# Altium footprint library Keyboard.PcbLib: 46 footprints (part 1 of 3)
Each footprint in its own frame and in the unit in brackets; x right, y up, seen from the top. Pads: shape width x height; smd on the part's side, far side on the other; paste and mask are expansions set on the pad; w line width, h text height; cw(c..) or ccw(c..) is an arc to the next point about the centre after c.
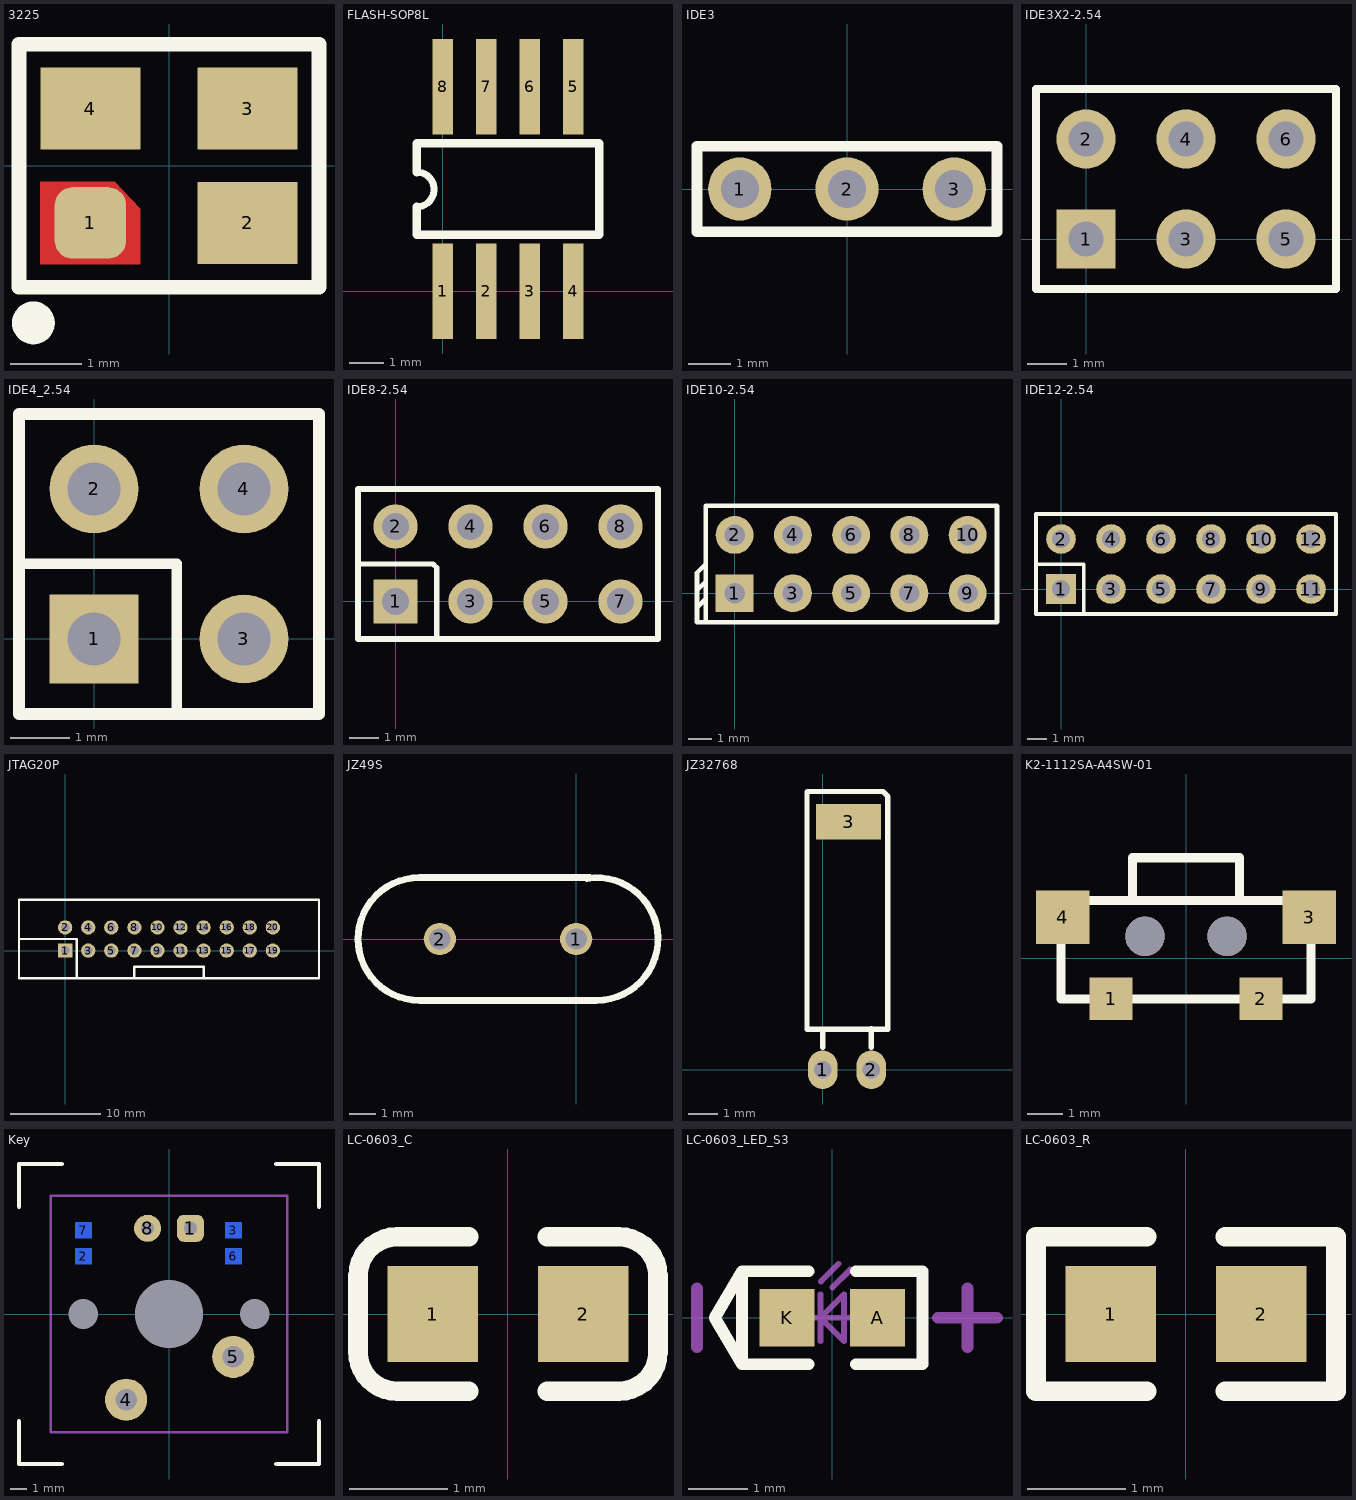
[diagram p0: the footprints below, top view; thin cyan lines are the x and y axes]

## 3225 [mm]
pads (4):
  rrect50% 1x1 smd: 1(-1.1,-0.8)
  rect 1.4x1.15 smd: 2(1.1,-0.8) 3(1.1,0.8) 4(-1.1,0.8)
Top Layer:
  region: -1.8,-0.225 -0.762,-0.225 -0.4,-0.604 -0.4,-1.375 -1.8,-1.375
Top Overlay:
  lines w0.203: -2.1,-1.7 -2.1,1.7 2.1,1.7 2.1,-1.7 -2.1,-1.7
  lines w0.3: -1.9,-2.05 ccw(c-1.899,-2.2) -1.897,-2.05
Top Paste:
  region: -1.8,-0.225 -0.762,-0.225 -0.4,-0.604 -0.4,-1.375 -1.8,-1.375
Top Solder:
  region: -1.905,-0.127 -0.856,-0.127 -0.381,-0.624 -0.381,-1.397 -1.905,-1.397

## FLASH-SOP8L [mil]
pads (8):
  rect 24x110 smd: 1(0,0) 2(50,0) 3(100,0) 4(150,0) 5(150,235) 6(100,235) 7(50,235) 8(0,235)
Top Overlay:
  lines w8: -30,97 ccw(c-30,117) -30,137
  lines w10: -30,97 -30,65 180,65 180,170 -30,170 -30,137

## IDE3 [mm]
pads (3):
  round 1.5 hole 0.9: 1(-2.54,0) 2(0,0) 3(2.54,0)
Top Overlay:
  lines w0.254: -3.556,-1.016 3.556,-1.016 3.556,1.016 -3.556,1.016 -3.556,-1.016

## IDE3X2-2.54 [mm]
pads (6):
  rect 1.5x1.5 hole 0.9: 1(0,0)
  round 1.5 hole 0.9: 2(0,2.54) 3(2.54,0) 4(2.54,2.54) 5(5.08,0) 6(5.08,2.54)
Top Overlay:
  lines w0.2: 1.482,-1.27 6.35,-1.27 ; 6.35,-1.27 6.35,3.81 -1.27,3.81 -1.27,-1.27 6.35,-1.27

## IDE4_2.54 [mm]
pads (4):
  rect 1.5x1.5 hole 0.9: 1(0,0)
  round 1.5 hole 0.9: 2(0,2.54) 3(2.54,0) 4(2.54,2.54)
Top Overlay:
  lines w0.178: -1.27,1.27 1.397,1.27 1.397,-1.27
  lines w0.2: -1.27,-1.27 3.81,-1.27 3.81,3.81 -1.27,3.81 -1.27,-1.27

## IDE8-2.54 [mm]
pads (8):
  rect 1.5x1.5 hole 0.9: 1(0,0)
  round 1.5 hole 0.9: 2(0,2.54) 3(2.54,0) 4(2.54,2.54) 5(5.08,0) 6(5.08,2.54) 7(7.62,0) 8(7.62,2.54)
Top Overlay:
  lines w0.178: -1.27,1.27 1.27,1.27 1.397,1.143 1.397,-1.27
  lines w0.2: -1.27,-1.27 8.89,-1.27 8.89,3.81 -1.27,3.81 -1.27,-1.27

## IDE10-2.54 [mil]
pads (10):
  rect 65x65 hole 35.43 mask+3: 1(0,0)
  round 65 hole 35.43 mask+3: 2(0,100) 3(100,0) 4(100,100) 5(200,0) 6(200,100) 7(300,0) 8(300,100) 9(400,0) 10(400,100)
Top Overlay:
  lines w8: -64.66,-24.83 -49.66,-9.83 ; -64.66,5.17 -49.66,20.17 ; -49.66,-49.83 -49.66,150.17 450.34,150.17 450.34,-49.83 -64.66,-49.83 -64.66,35.17 -49.66,50.17

## IDE12-2.54 [mm]
pads (12):
  rect 1.5x1.5 hole 0.9: 1(0,0)
  round 1.5 hole 0.9: 2(0,2.54) 3(2.54,0) 4(2.54,2.54) 5(5.08,0) 6(5.08,2.54) 7(7.62,0) 8(7.62,2.54) 9(10.16,0) 10(10.16,2.54) 11(12.7,0) 12(12.7,2.54)
Top Overlay:
  lines w0.178: -1.27,1.27 1.143,1.27 1.143,-1.27
  lines w0.2: -1.27,-1.27 13.97,-1.27 13.97,3.81 -1.27,3.81 -1.27,-1.27

## JTAG20P [mil]
pads (20):
  rect 62x62 hole 38: 1(0,0)
  round 62 hole 38: 2(0,100) 3(100,0) 4(100,100) 5(200,0) 6(200,100) 7(300,0) 8(300,100) 9(400,0) 10(400,100) 11(500,0) 12(500,100) 13(600,0) 14(600,100) 15(700,0) 16(700,100) 17(800,0) 18(800,100) 19(900,0) 20(900,100)
Top Overlay:
  lines w10: -200,50 50,50 50,-120 ; 300,-120 300,-70 600,-70 600,-120 ; -200,-120 1100,-120 1100,220 -200,220 -200,-120

## JZ49S [mm]
pads (2):
  round 1.2 hole 0.8: 1(0,0) 2(-5.08,0)
Top Overlay:
  lines w0.254: 0.404,2.258 cw(c0.762,0) 0.762,-2.286 -5.842,-2.286 cw(c-5.842,0) -5.842,2.286 0.508,2.286

## JZ32768 [mm]
pads (3):
  oval 1x1.3 hole 0.6: 1(0,0) 2(1.64,0)
  rect 2.2x1.2 smd: 3(0.875,8.382)
Top Overlay:
  lines w0.178: 0,0.762 0,1.37 ; 1.64,0.762 1.64,1.386 ; -0.53,1.37 2.2,1.37 2.2,8.77 2.2,9.23 2.032,9.398 -0.508,9.398 -0.53,9.376 -0.53,8.77 -0.53,1.37

## K2-1112SA-A4SW-01 [mm]
pads (6):
  rect 1.2x1.2 smd: 1(-2.1,-1.143) 2(2.1,-1.143)
  rect 1.5x1.5 smd: 3(3.45,1.143) 4(-3.45,1.143)
  round 1.1 hole 1.1 unplated: ""(-1.151,0.607) ""(1.15,0.607)
Top Overlay:
  lines w0.254: -1.5,1.651 -1.5,2.807 1.5,2.807 1.5,1.607 ; 3.5,-1.144 -3.5,-1.144 -3.5,1.607 3.5,1.607 3.5,-1.143

## Key [mm]
pads (11):
  rrect50% 1.6x1.6 hole 0.787: 1(1.27,5.08)
  rect 0.98x0.93 smd far side: 2(-5.08,3.421) 3(3.81,4.961) 6(3.81,3.421) 7(-5.08,4.961)
  round 2.5 hole 1.27: 4(-2.54,-5.08) 5(3.81,-2.54)
  round 1.6 hole 0.787: 8(-1.27,5.08)
  round 1.7 hole 1.753: ""(-5.08,0) ""(5.08,0)
  round 4 hole 4.013: ""(0,0)
Top Overlay:
  lines w0.254: -8.89,-6.35 -8.89,-8.89 -6.35,-8.89 ; -8.89,6.35 -8.89,8.89 -6.35,8.89 ; 6.35,-8.89 8.89,-8.89 8.89,-6.35 ; 6.35,8.89 8.89,8.89 8.89,6.35
Bottom Overlay:
  lines w0.2: -5.87,3.791 -5.87,2.656 -4.29,2.656 -4.29,3.791 ; -5.87,4.591 -5.87,5.726 -4.29,5.726 -4.29,4.591 ; 3.02,3.791 3.02,2.656 4.6,2.656 4.6,3.791 ; 3.02,4.591 3.02,5.726 4.6,5.726 4.6,4.591
Mechanical 1:
  lines w0.152: -7,-7 -3.5,-7 3.5,-7 7,-7 7,7 3.5,7 -3.5,7 -7,7 -7,-7
3D body "User Library-MX-Blue.STEP": height 15.47, standoff -3.43, extent -7.8,-7.726 7.8,7.874
3D body "User Library-RES_1609-0603.STEP": height 0.56, standoff 0, extent 3.41,3.341 4.21,5.041
3D body "User Library-RES_1609-0603.STEP": height 0.56, standoff 0, extent -5.48,3.341 -4.68,5.041

## LC-0603_C [mm]
pads (2):
  rect 0.93x0.98 smd: 1(-0.77,0) 2(0.77,0)
Top Overlay:
  lines w0.2: -0.4,-0.79 -1.135,-0.79 cw(c-1.135,-0.39) -1.535,-0.39 -1.535,0.39 cw(c-1.135,0.39) -1.135,0.79 -0.4,0.79 ; 0.4,-0.79 1.135,-0.79 ccw(c1.135,-0.39) 1.535,-0.39 1.535,0.39 ccw(c1.135,0.39) 1.135,0.79 0.4,0.79
3D body "User Library-0603 SMD Capacitor.STEP": height 0.3, standoff 0, extent -0.8,-0.4 0.8,0.4

## LC-0603_LED_S3 [mm]
pads (2):
  rect 0.93x0.98 smd: A(0.77,0) K(-0.77,0)
Top Overlay:
  lines w0.2: -0.4,-0.79 -1.535,-0.79 ; -0.4,0.79 -1.535,0.79 ; 0.4,-0.79 1.535,-0.79 1.535,0.79 0.4,0.79 ; -1.535,-0.79 -1.535,0.79 ; -1.535,-0.79 -2,0 -1.535,0.79
Mechanical 13:
  lines w0.1: -0.4,0 0.4,0 ; -0.2,-0.4 -0.2,0.4 ; -0.195,0.617 0.105,0.917 ; 0.005,0.517 0.305,0.817 ; -0.2,0 0.2,-0.4 0.2,0.4 -0.2,0
Mechanical 15:
  lines w0.203: -2.3,-0.5 -2.3,0.5 ; 1.8,0 2.8,0 ; 2.3,-0.5 2.3,0.5
3D body "User Library-LED_0603_R.STEP": height 0.6, standoff 0, extent -0.8,-0.4 0.8,0.4

## LC-0603_R [mm]
pads (2):
  rect 0.93x0.98 smd: 1(-0.77,0) 2(0.77,0)
Top Overlay:
  lines w0.2: -0.4,-0.79 -1.535,-0.79 -1.535,0.79 -0.4,0.79 ; 0.4,-0.79 1.535,-0.79 1.535,0.79 0.4,0.79
3D body "User Library-RES_1609-0603.STEP": height 0.56, standoff 0, extent -0.85,-0.4 0.85,0.4